# Altium footprint library UFL Antenna.PcbLib: 1 footprints
Each footprint in its own frame and in the unit in brackets; x right, y up, seen from the top. Pads: shape width x height; smd on the part's side, far side on the other; paste and mask are expansions set on the pad; w line width, h text height; cw(c..) or ccw(c..) is an arc to the next point about the centre after c.
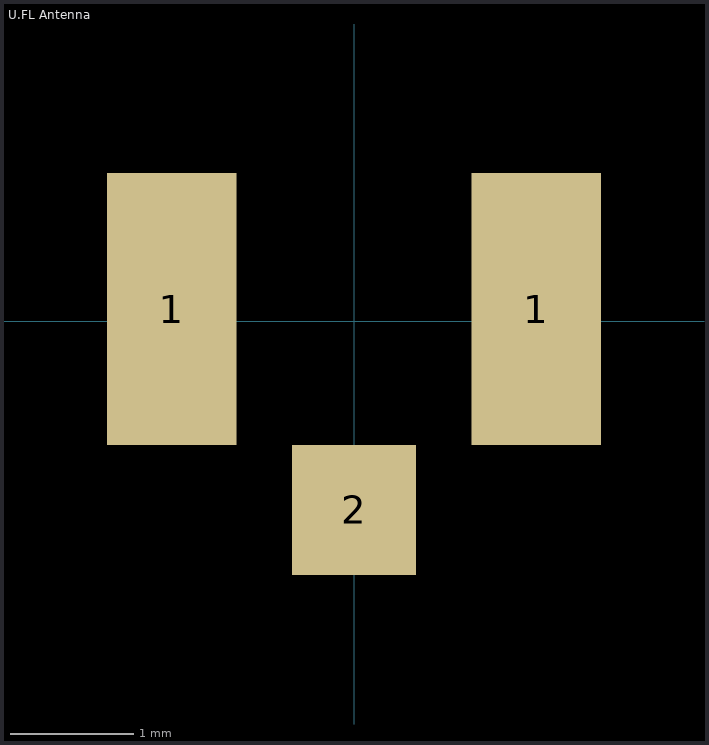
[diagram p0: the footprint, top view; thin cyan lines are the x and y axes]

## U.FL Antenna [mm]
pads (3):
  rect 1.05x2.2 smd: 1(-1.475,0.1) 1(1.475,0.1)
  rect 1x1.05 smd: 2(0,-1.525)
3D body: height 1.25, standoff 0.35, extent -1,-1.025 1,0.975
3D body: height 0.35, standoff 0, extent -1.5,-1.325 1.5,1.275
3D body: height 0.1, standoff 0, extent -1.7,-0.925 -1.3,0.875
3D body: height 0.1, standoff 0, extent -0.3,-1.575 0.3,-1.075
3D body: height 0.1, standoff 0, extent 1.3,-0.925 1.7,0.875
3D body: height 0.1, standoff 0, extent -0.3,1.025 0.3,1.525